# EAGLE library part 87368-10 (library con-molex-milli-grid)
RECEPTACAL
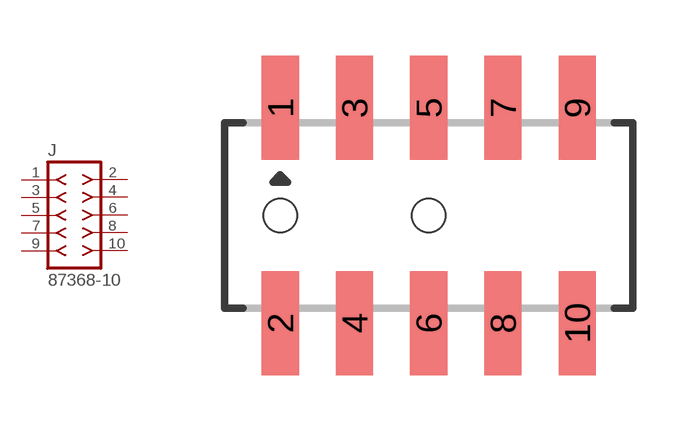
[diagram p184: symbol with the pads of 87368-10; footprint 87368-10]

Designator prefix J

## 87368-10  [87368-10]
1  1  pas
2  2  pas
3  3  pas
4  4  pas
5  5  pas
6  6  pas
7  7  pas
8  8  pas
9  9  pas
10  10  pas

## Footprint 87368-10 (pad centres in mm)
RECEPTACAL SMD Dual Row, Side Entry
smd 1 x 2.8: 1 -4,2.9; 2 -4,-2.9; 3 -2,2.9; 4 -2,-2.9; 5 0,2.9; 6 0,-2.9; 7 2,2.9; 8 2,-2.9; 9 4,2.9; 10 4,-2.9
hole 0.914 at -4,0
hole 0.914 at 0,0